# Altium footprint library Buttons.PcbLib: 1 footprints
Each footprint in its own frame and in the unit in brackets; x right, y up, seen from the top. Pads: shape width x height; smd on the part's side, far side on the other; paste and mask are expansions set on the pad; w line width, h text height; cw(c..) or ccw(c..) is an arc to the next point about the centre after c.
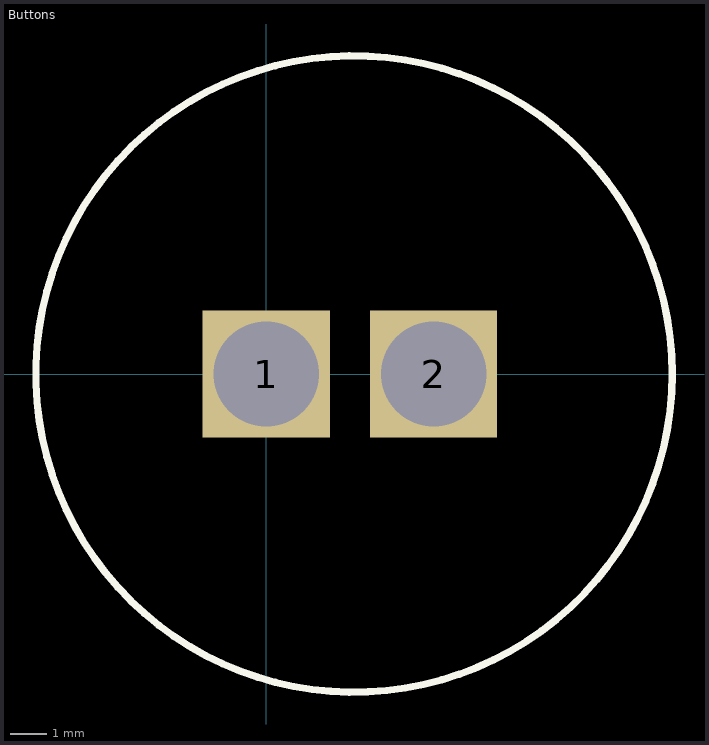
[diagram p0: the footprint, top view; thin cyan lines are the x and y axes]

## Buttons [mm]
pads (2):
  rect 3.5x3.5 hole 2.9 square: 1(0,0) 2(4.6,0)
Top Overlay:
  circle w0.2: c2.413,0 r8.75